# Altium integrated library NXP Microcontrollers ARM7.IntLib: 82 symbols (part 7 of 11)
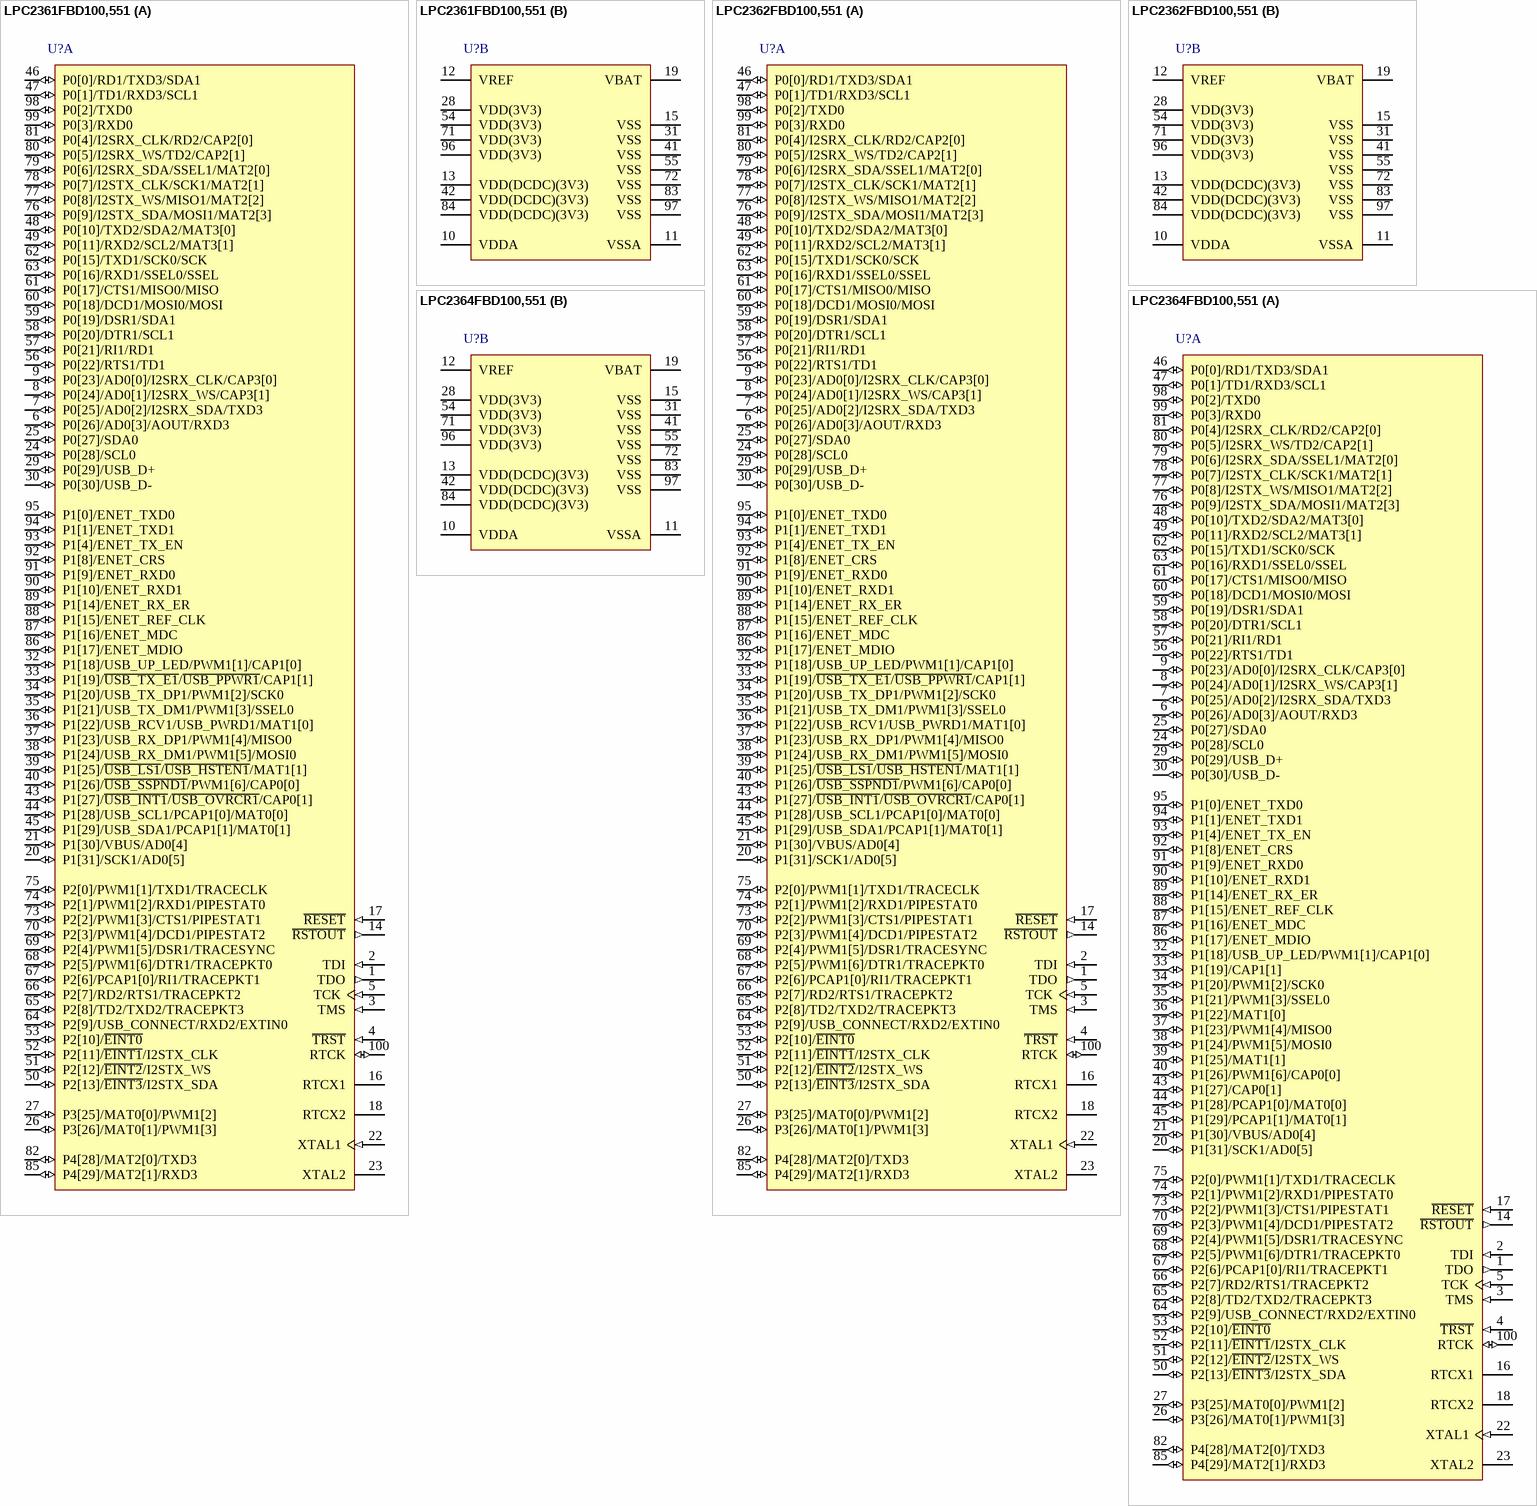
[diagram p41: symbols LPC2361FBD100,551 to LPC2364FBD100,551]

## LPC2362FBD100,551
designator U?
16/32-bit ARM7 Microcontroller, 70 I/O, 128 kB Flash, 58 kB SRAM, -40 to 85 degC, 100-Pin LQFP, Tray; Manufacturer: NXP Semiconductors; PartNumber: LPC2362FBD100,551; # of timers: 4; ADC (bits): 10; ADC Channels: 6; CAN: 2; Ethernet: 1; Flash (KB): 128; fmax [max] (MHz): 72; I/O Pins: 70; I2C: 3; PLL: TRUE; RAM (KB): 58; Timer (bits): 32; DatasheetVersion: Rev. 5.1; PackageVersion: Feb-03; PackageReference: SOT407-1; PackageDescription: 100-Pin Plastic Low Profile Quad Flat Package, Body 14 x 14 mm, Pitch 0.5 mm; Supplier 1: Digi-Key; Supplier Part Number 1: 568-4526-ND; Supplier 2: Farnell; Supplier Part Number 2: 2314791; Supplier 3: Newark; Supplier Part Number 3: 70R5645; Supplier 4: Mouser; Supplier Part Number 4: 771-LPC2362FBD100-S; Core: ARM7; Packing: Tray; PWM: 6; SPI: 1; SSP: 2; UART: 4; USB: 1; Mounting Technology: Surface Mount; Code_JEDEC: MS-026; ComponentLink1Description: Manufacturer URL; ComponentLink1URL: http://www.nxp.com/; ComponentLink2Description: Datasheet; ComponentLink2URL: http://www.nxp.com/documents/data_sheet/LPC2361_62.pdf; ComponentLink3Description: Package Specification; ComponentLink3URL: http://www.nxp.com/documents/outline_drawing/sot407-1_po.pdf
footprint NXP-SOT407-1_V (QFP, 100-Leads, Body 14x14mm, Pitch 0.5mm)
part A pins: 1 TDO (out) "TDO - Test Data out for JTAG interface.", 2 TDI (in) "TDI - Test Data in for JTAG interface.", 3 TMS (in) "TMS - Test Mode Select for JTAG interface.", 4 ~{TRST} (in) "T\R\S\T\ - Test Reset for JTAG interface.", 5 TCK (in) "TCK - Test Clock for JTAG interface. This clock must be slower than 1 ⁄ 6 of the CPU clock (CCLK) for the JTAG interface to operate", 6 P0[26]/AD0[3]/AOUT/RXD3 (io), 7 P0[25]/AD0[2]/I2SRX_SDA/TXD3 (io), 8 P0[24]/AD0[1]/I2SRX_WS/CAP3[1] (io), 9 P0[23]/AD0[0]/I2SRX_CLK/CAP3[0] (io), 14 ~{RSTOUT} (out) "R\S\T\O\U\T\ - This is a 3.3 V pin. LOW on this pin indicates LPC2361/2362 being in Reset state.", 16 RTCX1 "Input to the RTC oscillator circuit.", 17 ~{RESET} (in) "External reset input: A LOW on this pin resets the device, causing I/O ports and peripherals to take on their default states, and processor execution to begin at address 0. TTL with hysteresis, 5 V tolerant.", 18 RTCX2 "Output from the RTC oscillator circuit.", 20 P1[31]/SCK1/AD0[5] (io), 21 P1[30]/VBUS/AD0[4] (io), 22 XTAL1 (in) "Input to the oscillator circuit and internal clock generator circuits.", 23 XTAL2 "Output from the oscillator amplifier.", 24 P0[28]/SCL0 (io), 25 P0[27]/SDA0 (io), 26 P3[26]/MAT0[1]/PWM1[3] (io), 27 P3[25]/MAT0[0]/PWM1[2] (io), 29 P0[29]/USB_D+ (io), 30 P0[30]/USB_D- (io), 32 P1[18]/USB_UP_LED/PWM1[1]/CAP1[0] (io), 33 P1[19]/~{USB_TX_E1}/~{USB_PPWR1}/CAP1[1] (io), 34 P1[20]/USB_TX_DP1/PWM1[2]/SCK0 (io), 35 P1[21]/USB_TX_DM1/PWM1[3]/SSEL0 (io), 36 P1[22]/USB_RCV1/USB_PWRD1/MAT1[0] (io), 37 P1[23]/USB_RX_DP1/PWM1[4]/MISO0 (io), 38 P1[24]/USB_RX_DM1/PWM1[5]/MOSI0 (io), 39 P1[25]/~{USB_LS1}/~{USB_HSTEN1}/MAT1[1] (io), 40 P1[26]/~{USB_SSPND1}/PWM1[6]/CAP0[0] (io), 43 P1[27]/~{USB_INT1}/~{USB_OVRCR1}/CAP0[1] (io) "3.3 V DC-to-DC converter supply voltage: This is the supply voltage for the on-chip DC-to-DC converter only.", 44 P1[28]/USB_SCL1/PCAP1[0]/MAT0[0] (io), 45 P1[29]/USB_SDA1/PCAP1[1]/MAT0[1] (io), 46 P0[0]/RD1/TXD3/SDA1 (io), 47 P0[1]/TD1/RXD3/SCL1 (io), 48 P0[10]/TXD2/SDA2/MAT3[0] (io), 49 P0[11]/RXD2/SCL2/MAT3[1] (io), 50 P2[13]/~{EINT3}/I2STX_SDA (io), 51 P2[12]/~{EINT2}/I2STX_WS (io), 52 P2[11]/~{EINT1}/I2STX_CLK (io), 53 P2[10]/~{EINT0} (io), 56 P0[22]/RTS1/TD1 (io), 57 P0[21]/RI1/RD1 (io), 58 P0[20]/DTR1/SCL1 (io), 59 P0[19]/DSR1/SDA1 (io), 60 P0[18]/DCD1/MOSI0/MOSI (io), 61 P0[17]/CTS1/MISO0/MISO (io), 62 P0[15]/TXD1/SCK0/SCK (io), 63 P0[16]/RXD1/SSEL0/SSEL (io), 64 P2[9]/USB_CONNECT/RXD2/EXTIN0 (io), 65 P2[8]/TD2/TXD2/TRACEPKT3 (io), 66 P2[7]/RD2/RTS1/TRACEPKT2 (io), 67 P2[6]/PCAP1[0]/RI1/TRACEPKT1 (io), 68 P2[5]/PWM1[6]/DTR1/TRACEPKT0 (io), 69 P2[4]/PWM1[5]/DSR1/TRACESYNC (io), 70 P2[3]/PWM1[4]/DCD1/PIPESTAT2 (io), 73 P2[2]/PWM1[3]/CTS1/PIPESTAT1 (io), 74 P2[1]/PWM1[2]/RXD1/PIPESTAT0 (io), 75 P2[0]/PWM1[1]/TXD1/TRACECLK (io), 76 P0[9]/I2STX_SDA/MOSI1/MAT2[3] (io), 77 P0[8]/I2STX_WS/MISO1/MAT2[2] (io), 78 P0[7]/I2STX_CLK/SCK1/MAT2[1] (io), 79 P0[6]/I2SRX_SDA/SSEL1/MAT2[0] (io), 80 P0[5]/I2SRX_WS/TD2/CAP2[1] (io), 81 P0[4]/I2SRX_CLK/RD2/CAP2[0] (io), 82 P4[28]/MAT2[0]/TXD3 (io), 85 P4[29]/MAT2[1]/RXD3 (io), 86 P1[17]/ENET_MDIO (io), 87 P1[16]/ENET_MDC (io), 88 P1[15]/ENET_REF_CLK (io), 89 P1[14]/ENET_RX_ER (io), 90 P1[10]/ENET_RXD1 (io), 91 P1[9]/ENET_RXD0 (io), 92 P1[8]/ENET_CRS (io), 93 P1[4]/ENET_TX_EN (io), 94 P1[1]/ENET_TXD1 (io), 95 P1[0]/ENET_TXD0 (io), 98 P0[2]/TXD0 (io), 99 P0[3]/RXD0 (io), 100 RTCK (io) "RTCK - JTAG interface control signal."
part B pins: 10 VDDA (power) "analog 3.3 V pad supply voltage: This should be nominally the same voltage as VDD(3V3) but should be isolated to minimize noise and error. This voltage is used to power the ADC and DAC.", 11 VSSA (power) "analog ground: 0 V reference. This should nominally be the same voltage as VSS, but should be isolated to minimize noise and error.", 12 VREF "ADC reference: This should be nominally the same voltage as VDD(3V3) but should be isolated to minimize noise and error. Level on this pin is used as a reference for ADC and DAC.", 13 VDD(DCDC)(3V3) (power) "3.3 V DC-to-DC converter supply voltage: This is the supply voltage for the on-chip DC-to-DC converter only.", 15 VSS (power) "ground: 0 V reference.", 19 VBAT (power) "RTC power supply: 3.3 V on this pin supplies the power to the RTC peripheral.", 28 VDD(3V3) (power) "3.3 V supply voltage: This is the power supply voltage for the I/O ports.", 31 VSS (power) "ground: 0 V reference.", 41 VSS (power) "ground: 0 V reference.", 42 VDD(DCDC)(3V3) (power), 54 VDD(3V3) (power) "3.3 V supply voltage: This is the power supply voltage for the I/O ports.", 55 VSS (power) "ground: 0 V reference.", 71 VDD(3V3) (power) "3.3 V supply voltage: This is the power supply voltage for the I/O ports.", 72 VSS (power) "ground: 0 V reference.", 83 VSS (power) "ground: 0 V reference.", 84 VDD(DCDC)(3V3) (power) "3.3 V DC-to-DC converter supply voltage: This is the supply voltage for the on-chip DC-to-DC converter only.", 96 VDD(3V3) (power) "3.3 V supply voltage: This is the power supply voltage for the I/O ports.", 97 VSS (power) "ground: 0 V reference."

## LPC2364FBD100,551
designator U?
16/32-bit ARM7 Microcontroller, 70 I/O, 128 kB Flash, 34 kB SRAM, -40 to 85 degC, 100-Pin LQFP, Tray; Manufacturer: NXP Semiconductors; PartNumber: LPC2364FBD100,551; # of timers: 4; ADC (bits): 10; ADC Channels: 6; CAN: 2; Ethernet: 1; Flash (KB): 128; fmax [max] (MHz): 72; I/O Pins: 70; I2C: 3; PLL: TRUE; RAM (KB): 34; Timer (bits): 32; DatasheetVersion: Rev. 7.1; PackageVersion: Feb-03; PackageReference: SOT407-1; PackageDescription: 100-Pin Plastic Low Profile Quad Flat Package, Body 14 x 14 mm, Pitch 0.5 mm; Supplier 1: Digi-Key; Supplier Part Number 1: 568-3995-ND; Supplier 2: Farnell; Supplier Part Number 2: 1524643; Supplier 3: Newark; Supplier Part Number 3: 70R5646; Supplier 4: Mouser; Supplier Part Number 4: 771-LPC2364FBD100-S; Core: ARM7; Packing: Tray; PWM: 6; SPI: 1; SSP: 2; UART: 4; USB: 1; Mounting Technology: Surface Mount; Code_JEDEC: MS-026; ComponentLink1Description: Manufacturer URL; ComponentLink1URL: http://www.nxp.com/; ComponentLink2Description: Datasheet; ComponentLink2URL: http://www.nxp.com/documents/data_sheet/LPC2364_65_66_67_68.pdf; ComponentLink3Description: Package Specification; ComponentLink3URL: http://www.nxp.com/documents/outline_drawing/sot407-1_po.pdf
footprint NXP-SOT407-1_V (QFP, 100-Leads, Body 14x14mm, Pitch 0.5mm)
part A pins: 1 TDO (out) "TDO - Test Data out for JTAG interface.", 2 TDI (in) "TDI - Test Data in for JTAG interface.", 3 TMS (in) "TMS - Test Mode Select for JTAG interface.", 4 ~{TRST} (in) "T\R\S\T\ - Test Reset for JTAG interface.", 5 TCK (in) "TCK - Test Clock for JTAG interface. This clock must be slower than 1 / 6 of the CPU clock (CCLK) for the JTAG interface to operate", 6 P0[26]/AD0[3]/AOUT/RXD3 (io), 7 P0[25]/AD0[2]/I2SRX_SDA/TXD3 (io), 8 P0[24]/AD0[1]/I2SRX_WS/CAP3[1] (io), 9 P0[23]/AD0[0]/I2SRX_CLK/CAP3[0] (io), 14 ~{RSTOUT} (out) "R\S\T\O\U\T\ - This is a 3.3 V pin. LOW on this pin indicates LPC2364/65/66/67/68 being in Reset state. Note: This pin is available in LPC2364FBD100, LPC2365FBD100, LPC2366FBD100, LPC2367FBD100, and LPC2368FBD100 devices (See Datasheet)", 16 RTCX1 "Input to the RTC oscillator circuit.", 17 ~{RESET} (in) "External reset input: A LOW on this pin resets the device, causing I/O ports and peripherals to take on their default states, and processor execution to begin at address 0. TTL with hysteresis, 5 V tolerant.", 18 RTCX2 "Output from the RTC oscillator circuit.", 20 P1[31]/SCK1/AD0[5] (io), 21 P1[30]/VBUS/AD0[4] (io), 22 XTAL1 (in) "Input to the oscillator circuit and internal clock generator circuits.", 23 XTAL2 "Output from the oscillator amplifier.", 24 P0[28]/SCL0 (io), 25 P0[27]/SDA0 (io), 26 P3[26]/MAT0[1]/PWM1[3] (io), 27 P3[25]/MAT0[0]/PWM1[2] (io), 29 P0[29]/USB_D+ (io), 30 P0[30]/USB_D- (io), 32 P1[18]/USB_UP_LED/PWM1[1]/CAP1[0] (io), 33 P1[19]/CAP1[1] (io), 34 P1[20]/PWM1[2]/SCK0 (io), 35 P1[21]/PWM1[3]/SSEL0 (io), 36 P1[22]/MAT1[0] (io), 37 P1[23]/PWM1[4]/MISO0 (io), 38 P1[24]/PWM1[5]/MOSI0 (io), 39 P1[25]/MAT1[1] (io), 40 P1[26]/PWM1[6]/CAP0[0] (io), 43 P1[27]/CAP0[1] (io), 44 P1[28]/PCAP1[0]/MAT0[0] (io), 45 P1[29]/PCAP1[1]/MAT0[1] (io), 46 P0[0]/RD1/TXD3/SDA1 (io), 47 P0[1]/TD1/RXD3/SCL1 (io), 48 P0[10]/TXD2/SDA2/MAT3[0] (io), 49 P0[11]/RXD2/SCL2/MAT3[1] (io), 50 P2[13]/~{EINT3}/I2STX_SDA (io), 51 P2[12]/~{EINT2}/I2STX_WS (io), 52 P2[11]/~{EINT1}/I2STX_CLK (io), 53 P2[10]/~{EINT0} (io), 56 P0[22]/RTS1/TD1 (io), 57 P0[21]/RI1/RD1 (io), 58 P0[20]/DTR1/SCL1 (io), 59 P0[19]/DSR1/SDA1 (io), 60 P0[18]/DCD1/MOSI0/MOSI (io), 61 P0[17]/CTS1/MISO0/MISO (io), 62 P0[15]/TXD1/SCK0/SCK (io), 63 P0[16]/RXD1/SSEL0/SSEL (io), 64 P2[9]/USB_CONNECT/RXD2/EXTIN0 (io), 65 P2[8]/TD2/TXD2/TRACEPKT3 (io), 66 P2[7]/RD2/RTS1/TRACEPKT2 (io), 67 P2[6]/PCAP1[0]/RI1/TRACEPKT1 (io), 68 P2[5]/PWM1[6]/DTR1/TRACEPKT0 (io), 69 P2[4]/PWM1[5]/DSR1/TRACESYNC (io), 70 P2[3]/PWM1[4]/DCD1/PIPESTAT2 (io), 73 P2[2]/PWM1[3]/CTS1/PIPESTAT1 (io), 74 P2[1]/PWM1[2]/RXD1/PIPESTAT0 (io), 75 P2[0]/PWM1[1]/TXD1/TRACECLK (io), 76 P0[9]/I2STX_SDA/MOSI1/MAT2[3] (io), 77 P0[8]/I2STX_WS/MISO1/MAT2[2] (io), 78 P0[7]/I2STX_CLK/SCK1/MAT2[1] (io), 79 P0[6]/I2SRX_SDA/SSEL1/MAT2[0] (io), 80 P0[5]/I2SRX_WS/TD2/CAP2[1] (io), 81 P0[4]/I2SRX_CLK/RD2/CAP2[0] (io), 82 P4[28]/MAT2[0]/TXD3 (io), 85 P4[29]/MAT2[1]/RXD3 (io), 86 P1[17]/ENET_MDIO (io), 87 P1[16]/ENET_MDC (io), 88 P1[15]/ENET_REF_CLK (io), 89 P1[14]/ENET_RX_ER (io), 90 P1[10]/ENET_RXD1 (io), 91 P1[9]/ENET_RXD0 (io), 92 P1[8]/ENET_CRS (io), 93 P1[4]/ENET_TX_EN (io), 94 P1[1]/ENET_TXD1 (io), 95 P1[0]/ENET_TXD0 (io), 98 P0[2]/TXD0 (io), 99 P0[3]/RXD0 (io), 100 RTCK (io) "RTCK - JTAG interface control signal. Note: LOW on this pin while R\E\S\E\T\ is LOW enables ETM pins (P2[9:0]) to operate as trace port after reset."
part B pins: 10 VDDA (power) "analog 3.3 V pad supply voltage: This should be nominally the same voltage as VDD(3V3) but should be isolated to minimize noise and error. This voltage is used to power the ADC and DAC.", 11 VSSA (power) "analog ground: 0 V reference. This should nominally be the same voltage as VSS, but should be isolated to minimize noise and error.", 12 VREF "ADC reference: This should be nominally the same voltage as VDD(3V3) but should be isolated to minimize noise and error. Level on this pin is used as a reference for ADC and DAC.", 13 VDD(DCDC)(3V3) (power) "3.3 V DC-to-DC converter supply voltage: This is the supply voltage for the on-chip DC-to-DC converter only.", 15 VSS (power) "ground: 0 V reference.", 19 VBAT (power) "RTC power supply: 3.3 V on this pin supplies the power to the RTC peripheral.", 28 VDD(3V3) (power) "3.3 V supply voltage: This is the power supply voltage for the I/O ports.", 31 VSS (power) "ground: 0 V reference.", 41 VSS (power) "ground: 0 V reference.", 42 VDD(DCDC)(3V3) (power) "3.3 V DC-to-DC converter supply voltage: This is the supply voltage for the on-chip DC-to-DC converter only.", 54 VDD(3V3) (power) "3.3 V supply voltage: This is the power supply voltage for the I/O ports.", 55 VSS (power) "ground: 0 V reference.", 71 VDD(3V3) (power) "3.3 V supply voltage: This is the power supply voltage for the I/O ports.", 72 VSS (power) "ground: 0 V reference.", 83 VSS (power) "ground: 0 V reference.", 84 VDD(DCDC)(3V3) (power) "3.3 V DC-to-DC converter supply voltage: This is the supply voltage for the on-chip DC-to-DC converter only.", 96 VDD(3V3) (power) "3.3 V supply voltage: This is the power supply voltage for the I/O ports.", 97 VSS (power) "ground: 0 V reference."

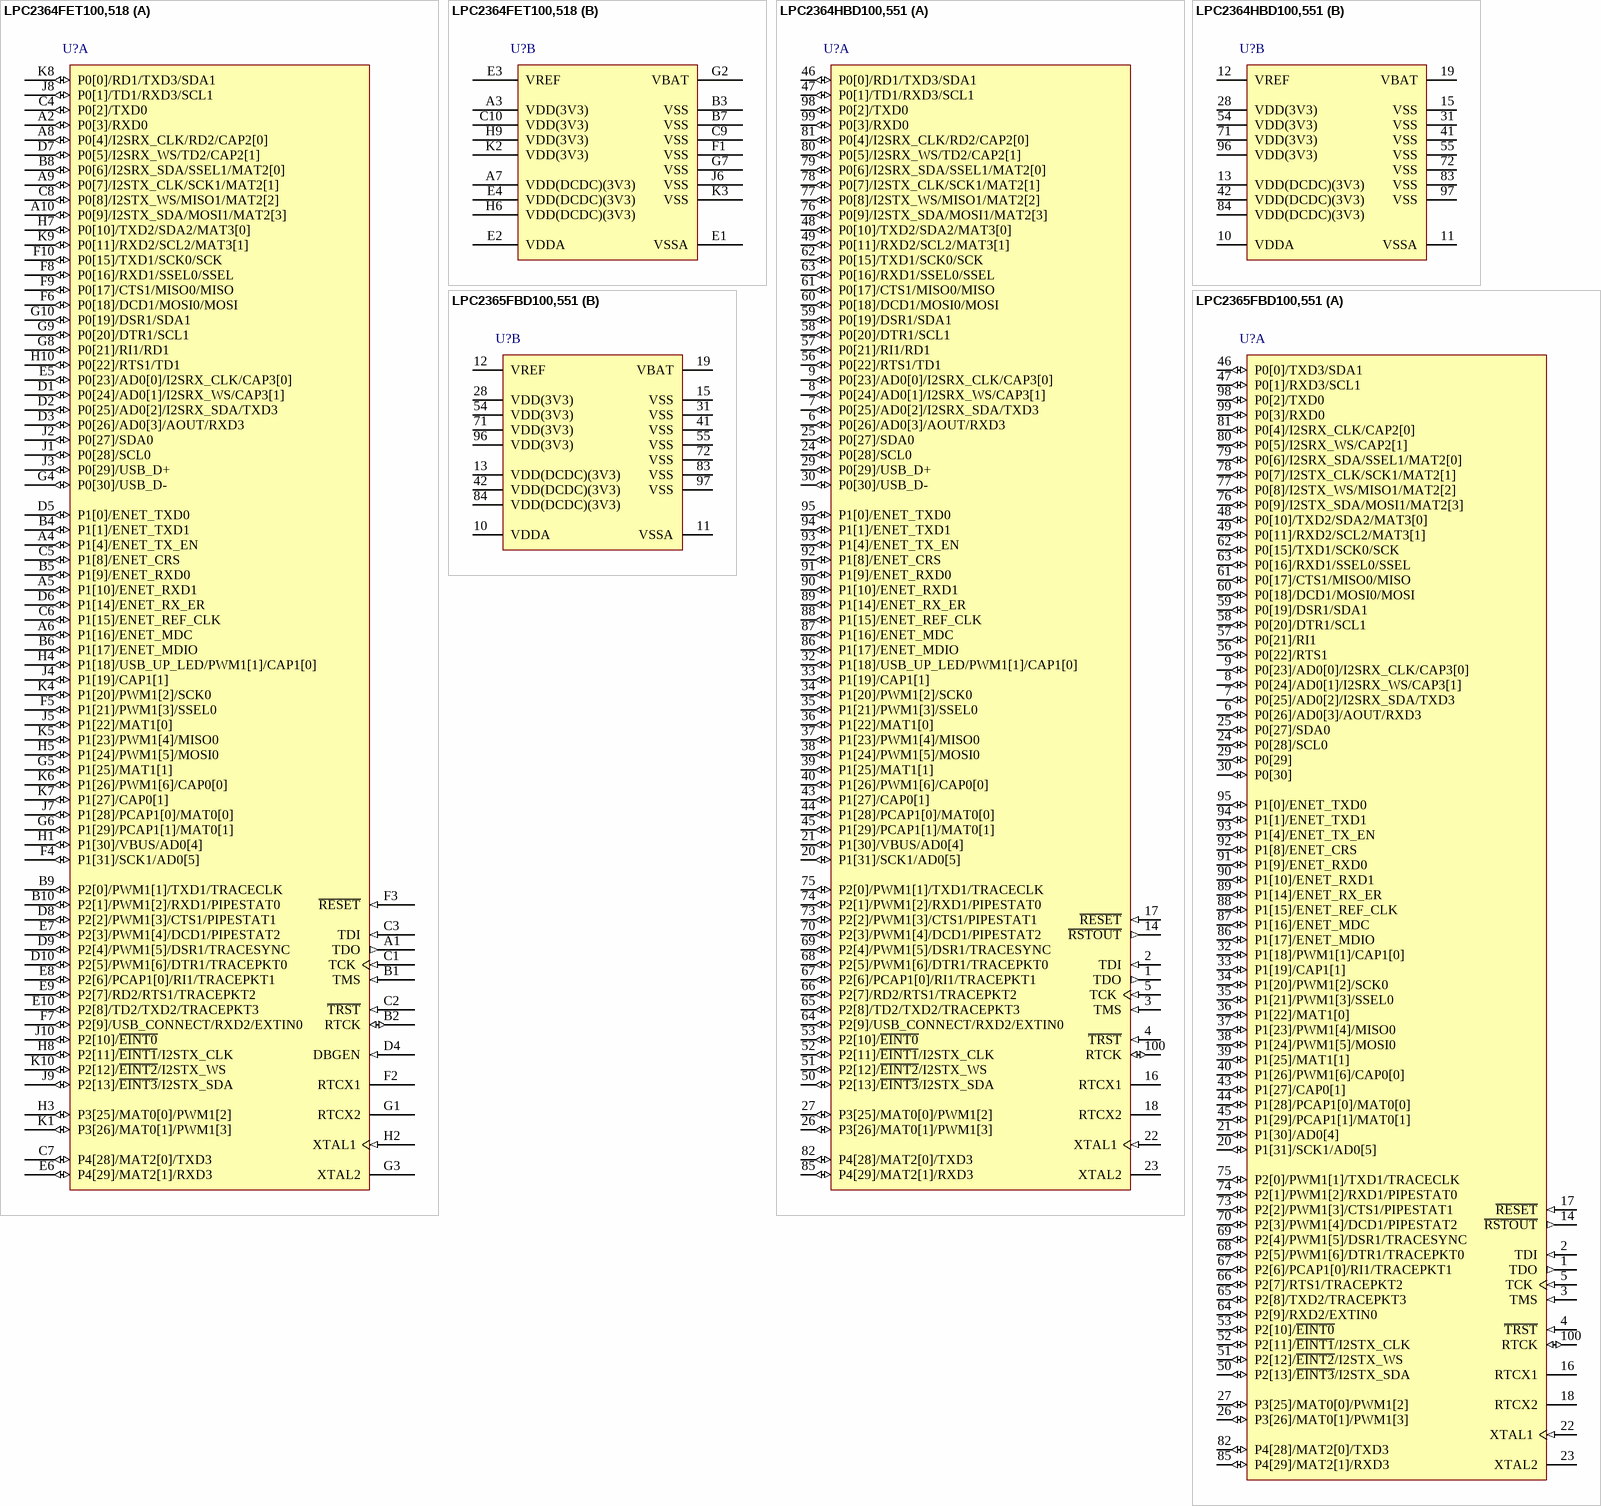
[diagram p19: symbols LPC2364FET100,518 to LPC2365FBD100,551]

## LPC2364FET100,518
designator U?
16/32-bit ARM7 Microcontroller, 70 I/O, 128 kB Flash, 34 kB SRAM, -40 to 85 degC, 100-Ball TFBGA, Reel; Manufacturer: NXP Semiconductors; PartNumber: LPC2364FET100,518; # of timers: 4; ADC (bits): 10; ADC Channels: 6; CAN: 2; Ethernet: 1; Flash (KB): 128; fmax [max] (MHz): 72; I/O Pins: 70; I2C: 3; PLL: TRUE; RAM (KB): 34; Timer (bits): 32; DatasheetVersion: Rev. 7.1; PackageVersion: Dec-05; PackageReference: SOT926-1; PackageDescription: 100-Ball Plastic Thin Fine-Pitch Ball Grid Array Package, Body 9 x 9 mm, Pitch 0.8 mm; Supplier 1: Digi-Key; Supplier Part Number 1: 568-8722-2-ND; Supplier 2: Digi-Key; Supplier Part Number 2: 568-8722-1-ND; Supplier 3: Digi-Key; Supplier Part Number 3: 568-8722-6-ND; Supplier 4: Newark; Supplier Part Number 4: 70R5647; Supplier 5: Mouser; Supplier Part Number 5: 771-LPC2364FET100-T; Core: ARM7; Packing: Reel; PWM: 6; SPI: 1; SSP: 2; UART: 4; USB: 1; Mounting Technology: Surface Mount; ComponentLink1Description: Manufacturer URL; ComponentLink1URL: http://www.nxp.com/; ComponentLink2Description: Datasheet; ComponentLink2URL: http://www.nxp.com/documents/data_sheet/LPC2364_65_66_67_68.pdf; ComponentLink3Description: Package Specification; ComponentLink3URL: http://www.nxp.com/documents/outline_drawing/sot926-1_po.pdf
footprint NXP-SOT926-1 (BGA, 100-Balls, Body 9x9mm, Pitch 0.8mm)
part A pins: A1 TDO (out) "TDO - Test Data out for JTAG interface.", A2 P0[3]/RXD0 (io), A4 P1[4]/ENET_TX_EN (io), A5 P1[10]/ENET_RXD1 (io), A6 P1[16]/ENET_MDC (io), A8 P0[4]/I2SRX_CLK/RD2/CAP2[0] (io), A9 P0[7]/I2STX_CLK/SCK1/MAT2[1] (io), A10 P0[9]/I2STX_SDA/MOSI1/MAT2[3] (io), B1 TMS (in) "TMS - Test Mode Select for JTAG interface.", B2 RTCK (io) "RTCK - JTAG interface control signal.", B4 P1[1]/ENET_TXD1 (io), B5 P1[9]/ENET_RXD0 (io), B6 P1[17]/ENET_MDIO (io), B8 P0[6]/I2SRX_SDA/SSEL1/MAT2[0] (io), B9 P2[0]/PWM1[1]/TXD1/TRACECLK (io), B10 P2[1]/PWM1[2]/RXD1/PIPESTAT0 (io), C1 TCK (in) "TCK - Test Clock for JTAG interface. This clock must be slower than 1 ⁄ 6 of the CPU clock (CCLK) for the JTAG interface to operate", C2 ~{TRST} (in) "T\R\S\T\ - Test Reset for JTAG interface.", C3 TDI (in) "TDI - Test Data in for JTAG interface.", C4 P0[2]/TXD0 (io), C5 P1[8]/ENET_CRS (io), C6 P1[15]/ENET_REF_CLK (io), C7 P4[28]/MAT2[0]/TXD3 (io), C8 P0[8]/I2STX_WS/MISO1/MAT2[2] (io), D1 P0[24]/AD0[1]/I2SRX_WS/CAP3[1] (io), D2 P0[25]/AD0[2]/I2SRX_SDA/TXD3 (io), D3 P0[26]/AD0[3]/AOUT/RXD3 (io), D4 DBGEN (in) "DBGEN - JTAG interface control signal. Also used for boundary scanning.", D5 P1[0]/ENET_TXD0 (io), D6 P1[14]/ENET_RX_ER (io), D7 P0[5]/I2SRX_WS/TD2/CAP2[1] (io), D8 P2[2]/PWM1[3]/CTS1/PIPESTAT1 (io), D9 P2[4]/PWM1[5]/DSR1/TRACESYNC (io), D10 P2[5]/PWM1[6]/DTR1/TRACEPKT0 (io), E5 P0[23]/AD0[0]/I2SRX_CLK/CAP3[0] (io), E6 P4[29]/MAT2[1]/RXD3 (io), E7 P2[3]/PWM1[4]/DCD1/PIPESTAT2 (io), E8 P2[6]/PCAP1[0]/RI1/TRACEPKT1 (io), E9 P2[7]/RD2/RTS1/TRACEPKT2 (io), E10 P2[8]/TD2/TXD2/TRACEPKT3 (io), F2 RTCX1 "Input to the RTC oscillator circuit.", F3 ~{RESET} (in) "External reset input: A LOW on this pin resets the device, causing I/O ports and peripherals to take on their default states, and processor execution to begin at address 0. TTL with hysteresis, 5 V tolerant.", F4 P1[31]/SCK1/AD0[5] (io), F5 P1[21]/PWM1[3]/SSEL0 (io), F6 P0[18]/DCD1/MOSI0/MOSI (io), F7 P2[9]/USB_CONNECT/RXD2/EXTIN0 (io), F8 P0[16]/RXD1/SSEL0/SSEL (io), F9 P0[17]/CTS1/MISO0/MISO (io), F10 P0[15]/TXD1/SCK0/SCK (io), G1 RTCX2 "Output from the RTC oscillator circuit.", G3 XTAL2 "Output from the oscillator amplifier.", G4 P0[30]/USB_D- (io), G5 P1[25]/MAT1[1] (io), G6 P1[29]/PCAP1[1]/MAT0[1] (io), G8 P0[21]/RI1/RD1 (io), G9 P0[20]/DTR1/SCL1 (io), G10 P0[19]/DSR1/SDA1 (io), H1 P1[30]/VBUS/AD0[4] (io), H2 XTAL1 (in) "Input to the oscillator circuit and internal clock generator circuits.", H3 P3[25]/MAT0[0]/PWM1[2] (io), H4 P1[18]/USB_UP_LED/PWM1[1]/CAP1[0] (io), H5 P1[24]/PWM1[5]/MOSI0 (io), H7 P0[10]/TXD2/SDA2/MAT3[0] (io), H8 P2[11]/~{EINT1}/I2STX_CLK (io), H10 P0[22]/RTS1/TD1 (io), J1 P0[28]/SCL0 (io), J2 P0[27]/SDA0 (io), J3 P0[29]/USB_D+ (io), J4 P1[19]/CAP1[1] (io), J5 P1[22]/MAT1[0] (io), J7 P1[28]/PCAP1[0]/MAT0[0] (io), J8 P0[1]/TD1/RXD3/SCL1 (io), J9 P2[13]/~{EINT3}/I2STX_SDA (io), J10 P2[10]/~{EINT0} (io), K1 P3[26]/MAT0[1]/PWM1[3] (io), K4 P1[20]/PWM1[2]/SCK0 (io), K5 P1[23]/PWM1[4]/MISO0 (io), K6 P1[26]/PWM1[6]/CAP0[0] (io), K7 P1[27]/CAP0[1] (io), K8 P0[0]/RD1/TXD3/SDA1 (io), K9 P0[11]/RXD2/SCL2/MAT3[1] (io), K10 P2[12]/~{EINT2}/I2STX_WS (io)
part B pins: A3 VDD(3V3) (power) "3.3 V supply voltage: This is the power supply voltage for the I/O ports.", A7 VDD(DCDC)(3V3) (power) "3.3 V DC-to-DC converter supply voltage: This is the supply voltage for the on-chip DC-to-DC converter only.", B3 VSS (power) "ground: 0 V reference.", B7 VSS (power) "ground: 0 V reference.", C9 VSS (power) "ground: 0 V reference.", C10 VDD(3V3) (power) "3.3 V supply voltage: This is the power supply voltage for the I/O ports.", E1 VSSA (power) "analog ground: 0 V reference. This should nominally be the same voltage as VSS, but should be isolated to minimize noise and error.", E2 VDDA (power) "analog 3.3 V pad supply voltage: This should be nominally the same voltage as VDD(3V3) but should be isolated to minimize noise and error. This voltage is used to power the ADC and DAC.", E3 VREF "ADC reference: This should be nominally the same voltage as VDD(3V3) but should be isolated to minimize noise and error. Level on this pin is used as a reference for ADC and DAC.", E4 VDD(DCDC)(3V3) (power) "3.3 V DC-to-DC converter supply voltage: This is the supply voltage for the on-chip DC-to-DC converter only.", F1 VSS (power) "ground: 0 V reference.", G2 VBAT (power) "RTC power supply: 3.3 V on this pin supplies the power to the RTC peripheral.", G7 VSS (power) "ground: 0 V reference.", H6 VDD(DCDC)(3V3) (power) "3.3 V DC-to-DC converter supply voltage: This is the supply voltage for the on-chip DC-to-DC converter only.", H9 VDD(3V3) (power) "3.3 V supply voltage: This is the power supply voltage for the I/O ports.", J6 VSS (power) "ground: 0 V reference.", K2 VDD(3V3) (power) "3.3 V supply voltage: This is the power supply voltage for the I/O ports.", K3 VSS (power) "ground: 0 V reference."

## LPC2364HBD100,551
designator U?
16/32-bit ARM7 Microcontroller, 70 I/O, 128 kB Flash, 34 kB SRAM, -40 to 125 degC, 100-Pin LQFP, Tray; Manufacturer: NXP Semiconductors; PartNumber: LPC2364HBD100,551; # of timers: 4; ADC (bits): 10; ADC Channels: 6; CAN: 2; Ethernet: 1; Flash (KB): 128; fmax [max] (MHz): 72; I/O Pins: 70; I2C: 3; PLL: TRUE; RAM (KB): 34; Timer (bits): 32; DatasheetVersion: Rev. 7.1; PackageVersion: Feb-03; PackageReference: SOT407-1; PackageDescription: 100-Pin Plastic Low Profile Quad Flat Package, Body 14 x 14 mm, Pitch 0.5 mm; Supplier 1: Digi-Key; Supplier Part Number 1: 568-5659-ND; Supplier 2: Farnell; Supplier Part Number 2: 2314792; Supplier 3: Newark; Supplier Part Number 3: 81R2738; Supplier 4: Mouser; Supplier Part Number 4: 771-LPC2364HBD100551; Core: ARM7; Packing: Tray; PWM: 6; SPI: 1; SSP: 2; UART: 4; USB: 1; Mounting Technology: Surface Mount; Code_JEDEC: MS-026; ComponentLink1Description: Manufacturer URL; ComponentLink1URL: http://www.nxp.com/; ComponentLink2Description: Datasheet; ComponentLink2URL: http://www.nxp.com/documents/data_sheet/LPC2364_65_66_67_68.pdf; ComponentLink3Description: Package Specification; ComponentLink3URL: http://www.nxp.com/documents/outline_drawing/sot407-1_po.pdf
footprint NXP-SOT407-1_V (QFP, 100-Leads, Body 14x14mm, Pitch 0.5mm)
part A pins: 1 TDO (out) "TDO - Test Data out for JTAG interface.", 2 TDI (in) "TDI - Test Data in for JTAG interface.", 3 TMS (in) "TMS - Test Mode Select for JTAG interface.", 4 ~{TRST} (in) "T\R\S\T\ - Test Reset for JTAG interface.", 5 TCK (in) "TCK - Test Clock for JTAG interface. This clock must be slower than 1 / 6 of the CPU clock (CCLK) for the JTAG interface to operate", 6 P0[26]/AD0[3]/AOUT/RXD3 (io), 7 P0[25]/AD0[2]/I2SRX_SDA/TXD3 (io), 8 P0[24]/AD0[1]/I2SRX_WS/CAP3[1] (io), 9 P0[23]/AD0[0]/I2SRX_CLK/CAP3[0] (io), 14 ~{RSTOUT} (out) "R\S\T\O\U\T\ - This is a 3.3 V pin. LOW on this pin indicates LPC2364/65/66/67/68 being in Reset state. Note: This pin is available in LPC2364FBD100, LPC2365FBD100, LPC2366FBD100, LPC2367FBD100, and LPC2368FBD100 devices (See Datasheet)", 16 RTCX1 "Input to the RTC oscillator circuit.", 17 ~{RESET} (in) "External reset input: A LOW on this pin resets the device, causing I/O ports and peripherals to take on their default states, and processor execution to begin at address 0. TTL with hysteresis, 5 V tolerant.", 18 RTCX2 "Output from the RTC oscillator circuit.", 20 P1[31]/SCK1/AD0[5] (io), 21 P1[30]/VBUS/AD0[4] (io), 22 XTAL1 (in) "Input to the oscillator circuit and internal clock generator circuits.", 23 XTAL2 "Output from the oscillator amplifier.", 24 P0[28]/SCL0 (io), 25 P0[27]/SDA0 (io), 26 P3[26]/MAT0[1]/PWM1[3] (io), 27 P3[25]/MAT0[0]/PWM1[2] (io), 29 P0[29]/USB_D+ (io), 30 P0[30]/USB_D- (io), 32 P1[18]/USB_UP_LED/PWM1[1]/CAP1[0] (io), 33 P1[19]/CAP1[1] (io), 34 P1[20]/PWM1[2]/SCK0 (io), 35 P1[21]/PWM1[3]/SSEL0 (io), 36 P1[22]/MAT1[0] (io), 37 P1[23]/PWM1[4]/MISO0 (io), 38 P1[24]/PWM1[5]/MOSI0 (io), 39 P1[25]/MAT1[1] (io), 40 P1[26]/PWM1[6]/CAP0[0] (io), 43 P1[27]/CAP0[1] (io), 44 P1[28]/PCAP1[0]/MAT0[0] (io), 45 P1[29]/PCAP1[1]/MAT0[1] (io), 46 P0[0]/RD1/TXD3/SDA1 (io), 47 P0[1]/TD1/RXD3/SCL1 (io), 48 P0[10]/TXD2/SDA2/MAT3[0] (io), 49 P0[11]/RXD2/SCL2/MAT3[1] (io), 50 P2[13]/~{EINT3}/I2STX_SDA (io), 51 P2[12]/~{EINT2}/I2STX_WS (io), 52 P2[11]/~{EINT1}/I2STX_CLK (io), 53 P2[10]/~{EINT0} (io), 56 P0[22]/RTS1/TD1 (io), 57 P0[21]/RI1/RD1 (io), 58 P0[20]/DTR1/SCL1 (io), 59 P0[19]/DSR1/SDA1 (io), 60 P0[18]/DCD1/MOSI0/MOSI (io), 61 P0[17]/CTS1/MISO0/MISO (io), 62 P0[15]/TXD1/SCK0/SCK (io), 63 P0[16]/RXD1/SSEL0/SSEL (io), 64 P2[9]/USB_CONNECT/RXD2/EXTIN0 (io), 65 P2[8]/TD2/TXD2/TRACEPKT3 (io), 66 P2[7]/RD2/RTS1/TRACEPKT2 (io), 67 P2[6]/PCAP1[0]/RI1/TRACEPKT1 (io), 68 P2[5]/PWM1[6]/DTR1/TRACEPKT0 (io), 69 P2[4]/PWM1[5]/DSR1/TRACESYNC (io), 70 P2[3]/PWM1[4]/DCD1/PIPESTAT2 (io), 73 P2[2]/PWM1[3]/CTS1/PIPESTAT1 (io), 74 P2[1]/PWM1[2]/RXD1/PIPESTAT0 (io), 75 P2[0]/PWM1[1]/TXD1/TRACECLK (io), 76 P0[9]/I2STX_SDA/MOSI1/MAT2[3] (io), 77 P0[8]/I2STX_WS/MISO1/MAT2[2] (io), 78 P0[7]/I2STX_CLK/SCK1/MAT2[1] (io), 79 P0[6]/I2SRX_SDA/SSEL1/MAT2[0] (io), 80 P0[5]/I2SRX_WS/TD2/CAP2[1] (io), 81 P0[4]/I2SRX_CLK/RD2/CAP2[0] (io), 82 P4[28]/MAT2[0]/TXD3 (io), 85 P4[29]/MAT2[1]/RXD3 (io), 86 P1[17]/ENET_MDIO (io), 87 P1[16]/ENET_MDC (io), 88 P1[15]/ENET_REF_CLK (io), 89 P1[14]/ENET_RX_ER (io), 90 P1[10]/ENET_RXD1 (io), 91 P1[9]/ENET_RXD0 (io), 92 P1[8]/ENET_CRS (io), 93 P1[4]/ENET_TX_EN (io), 94 P1[1]/ENET_TXD1 (io), 95 P1[0]/ENET_TXD0 (io), 98 P0[2]/TXD0 (io), 99 P0[3]/RXD0 (io), 100 RTCK (io) "RTCK - JTAG interface control signal. Note: LOW on this pin while R\E\S\E\T\ is LOW enables ETM pins (P2[9:0]) to operate as trace port after reset."
part B pins: 10 VDDA (power) "analog 3.3 V pad supply voltage: This should be nominally the same voltage as VDD(3V3) but should be isolated to minimize noise and error. This voltage is used to power the ADC and DAC.", 11 VSSA (power) "analog ground: 0 V reference. This should nominally be the same voltage as VSS, but should be isolated to minimize noise and error.", 12 VREF "ADC reference: This should be nominally the same voltage as VDD(3V3) but should be isolated to minimize noise and error. Level on this pin is used as a reference for ADC and DAC.", 13 VDD(DCDC)(3V3) (power) "3.3 V DC-to-DC converter supply voltage: This is the supply voltage for the on-chip DC-to-DC converter only.", 15 VSS (power) "ground: 0 V reference.", 19 VBAT (power) "RTC power supply: 3.3 V on this pin supplies the power to the RTC peripheral.", 28 VDD(3V3) (power) "3.3 V supply voltage: This is the power supply voltage for the I/O ports.", 31 VSS (power) "ground: 0 V reference.", 41 VSS (power) "ground: 0 V reference.", 42 VDD(DCDC)(3V3) (power) "3.3 V DC-to-DC converter supply voltage: This is the supply voltage for the on-chip DC-to-DC converter only.", 54 VDD(3V3) (power) "3.3 V supply voltage: This is the power supply voltage for the I/O ports.", 55 VSS (power) "ground: 0 V reference.", 71 VDD(3V3) (power) "3.3 V supply voltage: This is the power supply voltage for the I/O ports.", 72 VSS (power) "ground: 0 V reference.", 83 VSS (power) "ground: 0 V reference.", 84 VDD(DCDC)(3V3) (power) "3.3 V DC-to-DC converter supply voltage: This is the supply voltage for the on-chip DC-to-DC converter only.", 96 VDD(3V3) (power) "3.3 V supply voltage: This is the power supply voltage for the I/O ports.", 97 VSS (power) "ground: 0 V reference."

## LPC2365FBD100,551
designator U?
16/32-bit ARM7 Microcontroller, 70 I/O, 256 kB Flash, 58 kB SRAM, -40 to 85 degC, 100-Pin LQFP, Tray; Manufacturer: NXP Semiconductors; PartNumber: LPC2365FBD100,551; # of timers: 4; ADC (bits): 10; ADC Channels: 6; Ethernet: 1; Flash (KB): 256; fmax [max] (MHz): 72; I/O Pins: 70; I2C: 3; PLL: TRUE; RAM (KB): 58; SSP: 2; Timer (bits): 32; DatasheetVersion: Rev. 7.1; PackageVersion: Feb-03; PackageReference: SOT407-1; PackageDescription: 100-Pin Plastic Low Profile Quad Flat Package, Body 14 x 14 mm, Pitch 0.5 mm; Supplier 1: Digi-Key; Supplier Part Number 1: 568-4409-ND; Supplier 2: Farnell; Supplier Part Number 2: 2314793; Supplier 3: Newark; Supplier Part Number 3: 95W3356; Supplier 4: Newark; Supplier Part Number 4: 70R5649; Supplier 5: Mouser; Supplier Part Number 5: 771-LPC2365FBD100-S; Core: ARM7; Packing: Tray; PWM: 6; SPI: 1; UART: 4; Mounting Technology: Surface Mount; Code_JEDEC: MS-026; ComponentLink1Description: Manufacturer URL; ComponentLink1URL: http://www.nxp.com/; ComponentLink2Description: Datasheet; ComponentLink2URL: http://www.nxp.com/documents/data_sheet/LPC2364_65_66_67_68.pdf; ComponentLink3Description: Package Specification; ComponentLink3URL: http://www.nxp.com/documents/outline_drawing/sot407-1_po.pdf
footprint NXP-SOT407-1_V (QFP, 100-Leads, Body 14x14mm, Pitch 0.5mm)
part A pins: 1 TDO (out) "TDO - Test Data out for JTAG interface.", 2 TDI (in) "TDI — Test Data in for JTAG interface.", 3 TMS (in) "TMS — Test Mode Select for JTAG interface.", 4 ~{TRST} (in) "T\R\S\T\ - Test Reset for JTAG interface.", 5 TCK (in) "TCK - Test Clock for JTAG interface. This clock must be slower than 1/6 of the CPU clock (CCLK) for the JTAG interface to operate", 6 P0[26]/AD0[3]/AOUT/RXD3 (io), 7 P0[25]/AD0[2]/I2SRX_SDA/TXD3 (io), 8 P0[24]/AD0[1]/I2SRX_WS/CAP3[1] (io), 9 P0[23]/AD0[0]/I2SRX_CLK/CAP3[0] (io), 14 ~{RSTOUT} (out) "R\S\T\\O\U\T\ - This is a 3.3 V pin. LOW on this pin indicates LPC2364/65/66/67/68 being in Reset state.", 16 RTCX1 "Input to the RTC oscillator circuit.", 17 ~{RESET} (in) "External reset input: A LOW on this pin resets the device, causing I/O ports and peripherals to take on their default states, and processor execution to begin at address 0. TTL with hysteresis, 5 V tolerant.", 18 RTCX2 "Output from the RTC oscillator circuit.", 20 P1[31]/SCK1/AD0[5] (io), 21 P1[30]/AD0[4] (io), 22 XTAL1 (in) "Input to the oscillator circuit and internal clock generator circuits.", 23 XTAL2 "Output from the oscillator amplifier.", 24 P0[28]/SCL0 (io), 25 P0[27]/SDA0 (io), 26 P3[26]/MAT0[1]/PWM1[3] (io), 27 P3[25]/MAT0[0]/PWM1[2] (io), 29 P0[29] (io) "P0[29] - General purpose digital input/output pin.", 30 P0[30] (io) "P0[30] - General purpose digital input/output pin.", 32 P1[18]/PWM1[1]/CAP1[0] (io), 33 P1[19]/CAP1[1] (io), 34 P1[20]/PWM1[2]/SCK0 (io), 35 P1[21]/PWM1[3]/SSEL0 (io), 36 P1[22]/MAT1[0] (io), 37 P1[23]/PWM1[4]/MISO0 (io), 38 P1[24]/PWM1[5]/MOSI0 (io), 39 P1[25]/MAT1[1] (io), 40 P1[26]/PWM1[6]/CAP0[0] (io), 43 P1[27]/CAP0[1] (io), 44 P1[28]/PCAP1[0]/MAT0[0] (io), 45 P1[29]/PCAP1[1]/MAT0[1] (io), 46 P0[0]/TXD3/SDA1 (io), 47 P0[1]/RXD3/SCL1 (io), 48 P0[10]/TXD2/SDA2/MAT3[0] (io), 49 P0[11]/RXD2/SCL2/MAT3[1] (io), 50 P2[13]/~{EINT3}/I2STX_SDA (io), 51 P2[12]/~{EINT2}/I2STX_WS (io), 52 P2[11]/~{EINT1}/I2STX_CLK (io), 53 P2[10]/~{EINT0} (io), 56 P0[22]/RTS1 (io), 57 P0[21]/RI1 (io), 58 P0[20]/DTR1/SCL1 (io), 59 P0[19]/DSR1/SDA1 (io), 60 P0[18]/DCD1/MOSI0/MOSI (io), 61 P0[17]/CTS1/MISO0/MISO (io), 62 P0[15]/TXD1/SCK0/SCK (io), 63 P0[16]/RXD1/SSEL0/SSEL (io), 64 P2[9]/RXD2/EXTIN0 (io), 65 P2[8]/TXD2/TRACEPKT3 (io), 66 P2[7]/RTS1/TRACEPKT2 (io), 67 P2[6]/PCAP1[0]/RI1/TRACEPKT1 (io), 68 P2[5]/PWM1[6]/DTR1/TRACEPKT0 (io), 69 P2[4]/PWM1[5]/DSR1/TRACESYNC (io), 70 P2[3]/PWM1[4]/DCD1/PIPESTAT2 (io), 73 P2[2]/PWM1[3]/CTS1/PIPESTAT1 (io), 74 P2[1]/PWM1[2]/RXD1/PIPESTAT0 (io), 75 P2[0]/PWM1[1]/TXD1/TRACECLK (io), 76 P0[9]/I2STX_SDA/MOSI1/MAT2[3] (io), 77 P0[8]/I2STX_WS/MISO1/MAT2[2] (io), 78 P0[7]/I2STX_CLK/SCK1/MAT2[1] (io), 79 P0[6]/I2SRX_SDA/SSEL1/MAT2[0] (io), 80 P0[5]/I2SRX_WS/CAP2[1] (io), 81 P0[4]/I2SRX_CLK/CAP2[0] (io), 82 P4[28]/MAT2[0]/TXD3 (io), 85 P4[29]/MAT2[1]/RXD3 (io), 86 P1[17]/ENET_MDIO (io), 87 P1[16]/ENET_MDC (io), 88 P1[15]/ENET_REF_CLK (io), 89 P1[14]/ENET_RX_ER (io), 90 P1[10]/ENET_RXD1 (io), 91 P1[9]/ENET_RXD0 (io), 92 P1[8]/ENET_CRS (io), 93 P1[4]/ENET_TX_EN (io), 94 P1[1]/ENET_TXD1 (io), 95 P1[0]/ENET_TXD0 (io), 98 P0[2]/TXD0 (io), 99 P0[3]/RXD0 (io), 100 RTCK (io) "RTCK - JTAG interface control signal."
part B pins: 10 VDDA (power) "analog 3.3 V pad supply voltage: This should be nominally.voltage as VDD(3V3) but should be isolated to minimize noise. voltage is used to power the ADC and DAC.", 11 VSSA (power) "analog ground: 0 V reference. This should nominally be the same voltage as VSS, but should be isolated to minimize noise and error.", 12 VREF "ADC reference: This should be nominally the same voltage as VDD(3V3) but should be isolated to minimize noise and error. Level on this pin is used as a reference for ADC and DAC.", 13 VDD(DCDC)(3V3) (power) "3.3 V DC-to-DC converter supply voltage: This is the supply voltage for the on-chip DC-to-DC converter only.", 15 VSS (power) "ground: 0 V reference.", 19 VBAT (power) "RTC pin power supply: 3.3 V on this pin supplies the power to the RTC peripheral.", 28 VDD(3V3) (power) "3.3 V supply voltage: This is the power supply voltage for the I/O ports.", 31 VSS (power) "ground: 0 V reference.", 41 VSS (power) "ground: 0 V reference.", 42 VDD(DCDC)(3V3) (power) "3.3 V DC-to-DC converter supply voltage: This is the supply voltage for the on-chip DC-to-DC converter only.", 54 VDD(3V3) (power) "3.3 V supply voltage: This is the power supply voltage for the I/O ports.", 55 VSS (power) "ground: 0 V reference.", 71 VDD(3V3) (power) "3.3 V supply voltage: This is the power supply voltage for the I/O ports.", 72 VSS (power) "ground: 0 V reference.", 83 VSS (power) "ground: 0 V reference.", 84 VDD(DCDC)(3V3) (power) "3.3 V DC-to-DC converter supply voltage: This is the supply voltage for the on-chip DC-to-DC converter only.", 96 VDD(3V3) (power) "3.3 V supply voltage: This is the power supply voltage for the I/O ports.", 97 VSS (power) "ground: 0 V reference."

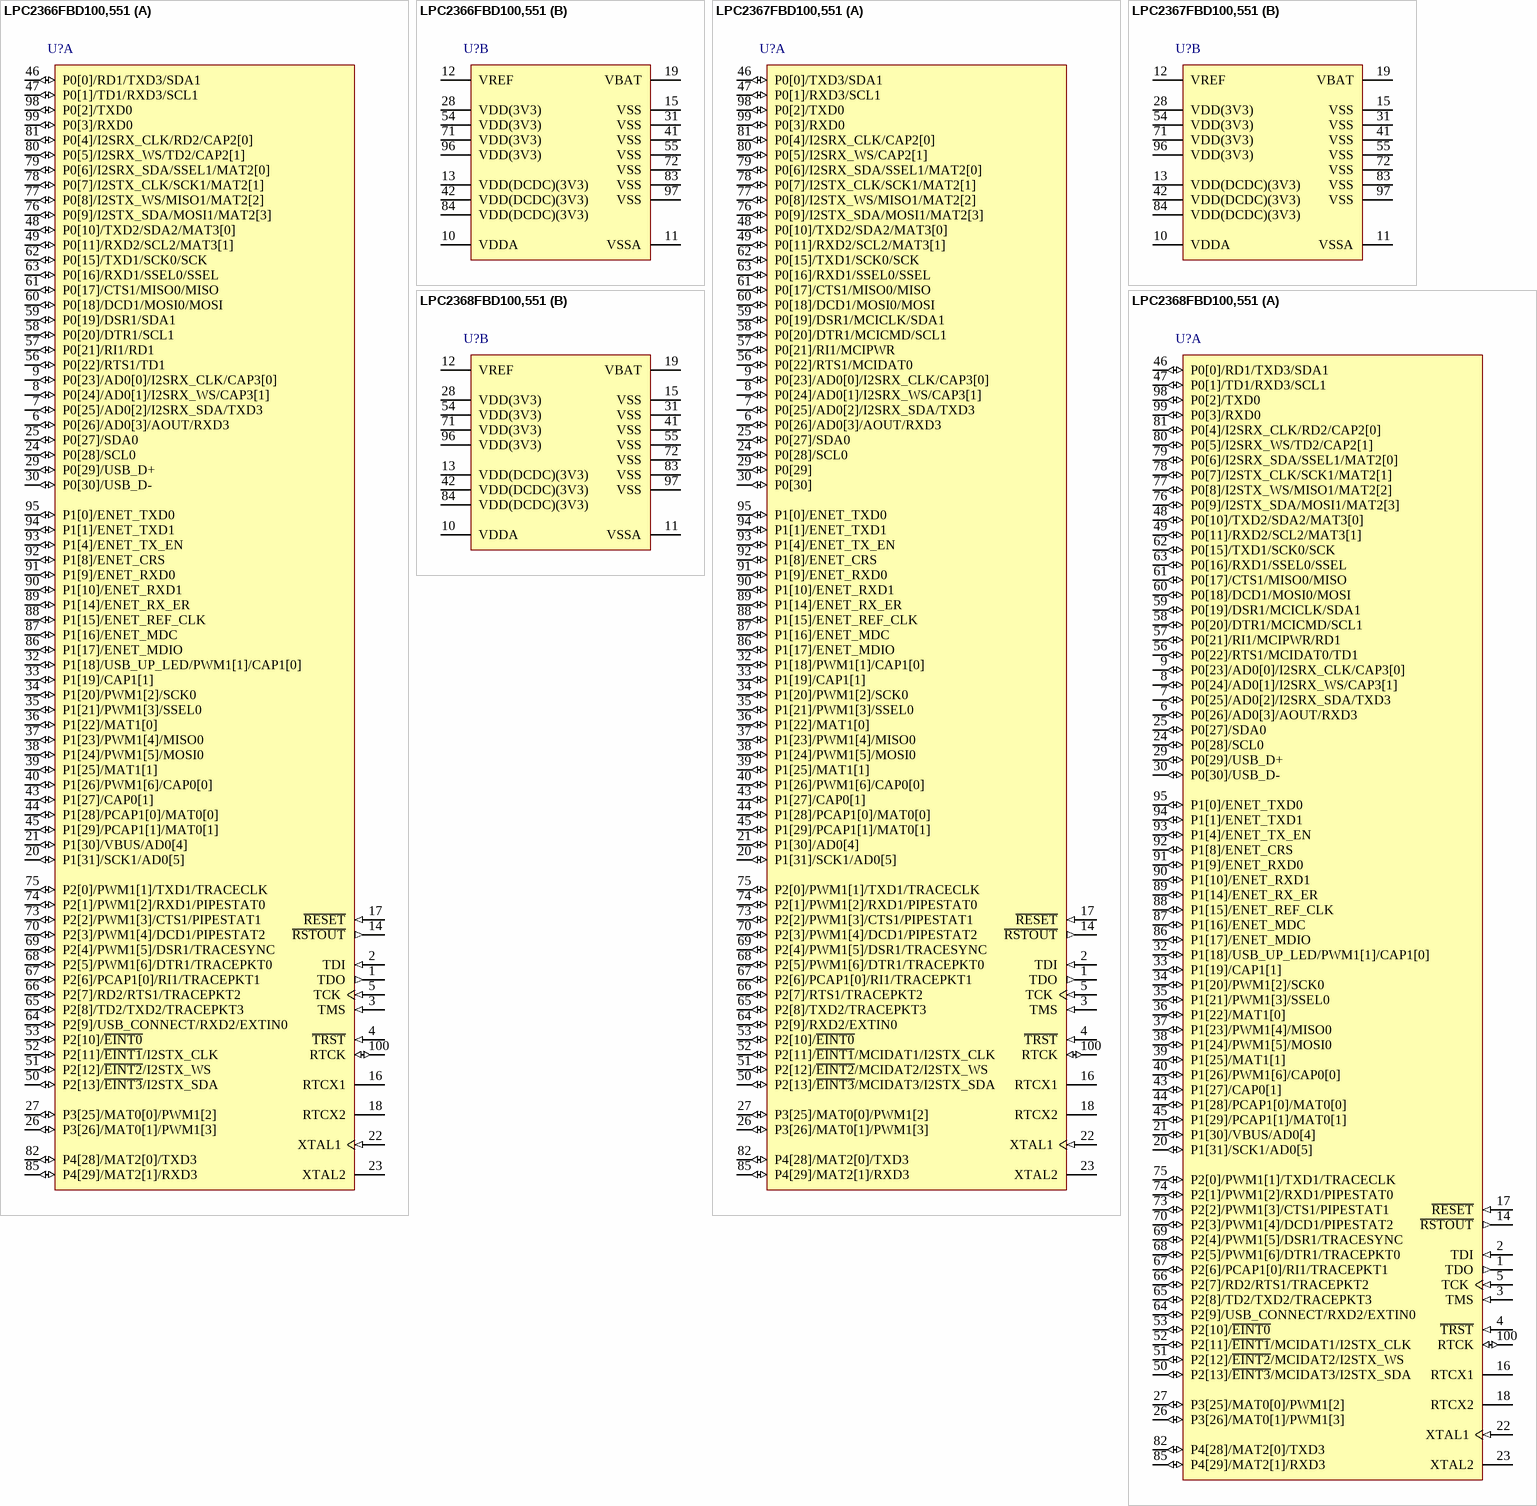
[diagram p20: symbols LPC2366FBD100,551 to LPC2368FBD100,551]

## LPC2366FBD100,551
designator U?
16/32-bit ARM7 Microcontroller, 70 I/O, 256 kB Flash, 58 kB SRAM, -40 to 85 degC, 100-Pin LQFP, Tray; Manufacturer: NXP Semiconductors; PartNumber: LPC2366FBD100,551; # of timers: 4; ADC (bits): 10; ADC Channels: 6; CAN: 2; Ethernet: 1; Flash (KB): 256; fmax [max] (MHz): 72; I/O Pins: 70; I2C: 3; PLL: TRUE; RAM (KB): 58; Timer (bits): 32; DatasheetVersion: Rev. 7.1; PackageVersion: Feb-03; PackageReference: SOT407-1; PackageDescription: 100-Pin Plastic Low Profile Quad Flat Package, Body 14 x 14 mm, Pitch 0.5 mm; Supplier 1: Digi-Key; Supplier Part Number 1: 568-3996-ND; Supplier 2: Farnell; Supplier Part Number 2: 1524644; Supplier 3: Newark; Supplier Part Number 3: 70R5650; Supplier 4: Mouser; Supplier Part Number 4: 771-LPC2366FBD100-S; Core: ARM7; Packing: Tray; PWM: 6; SPI: 1; SSP: 2; UART: 4; USB: 1; Mounting Technology: Surface Mount; Code_JEDEC: MS-026; ComponentLink1Description: Manufacturer URL; ComponentLink1URL: http://www.nxp.com/; ComponentLink2Description: Datasheet; ComponentLink2URL: http://www.nxp.com/documents/data_sheet/LPC2364_65_66_67_68.pdf; ComponentLink3Description: Package Specification; ComponentLink3URL: http://www.nxp.com/documents/outline_drawing/sot407-1_po.pdf
footprint NXP-SOT407-1_V (QFP, 100-Leads, Body 14x14mm, Pitch 0.5mm)
part A pins: 1 TDO (out) "TDO - Test Data out for JTAG interface.", 2 TDI (in) "TDI - Test Data in for JTAG interface.", 3 TMS (in) "TMS - Test Mode Select for JTAG interface.", 4 ~{TRST} (in) "T\R\S\T\ - Test Reset for JTAG interface.", 5 TCK (in) "TCK - Test Clock for JTAG interface. This clock must be slower than 1 / 6 of the CPU clock (CCLK) for the JTAG interface to operate", 6 P0[26]/AD0[3]/AOUT/RXD3 (io), 7 P0[25]/AD0[2]/I2SRX_SDA/TXD3 (io), 8 P0[24]/AD0[1]/I2SRX_WS/CAP3[1] (io), 9 P0[23]/AD0[0]/I2SRX_CLK/CAP3[0] (io), 14 ~{RSTOUT} (out) "R\S\T\O\U\T\ - This is a 3.3 V pin. LOW on this pin indicates LPC2364/65/66/67/68 being in Reset state. Note: This pin is available in LPC2364FBD100, LPC2365FBD100, LPC2366FBD100, LPC2367FBD100, and LPC2368FBD100 devices (See Datasheet)", 16 RTCX1 "Input to the RTC oscillator circuit.", 17 ~{RESET} (in) "External reset input: A LOW on this pin resets the device, causing I/O ports and peripherals to take on their default states, and processor execution to begin at address 0. TTL with hysteresis, 5 V tolerant.", 18 RTCX2 "Output from the RTC oscillator circuit.", 20 P1[31]/SCK1/AD0[5] (io), 21 P1[30]/VBUS/AD0[4] (io), 22 XTAL1 (in) "Input to the oscillator circuit and internal clock generator circuits.", 23 XTAL2 "Output from the oscillator amplifier.", 24 P0[28]/SCL0 (io), 25 P0[27]/SDA0 (io), 26 P3[26]/MAT0[1]/PWM1[3] (io), 27 P3[25]/MAT0[0]/PWM1[2] (io), 29 P0[29]/USB_D+ (io), 30 P0[30]/USB_D- (io), 32 P1[18]/USB_UP_LED/PWM1[1]/CAP1[0] (io), 33 P1[19]/CAP1[1] (io), 34 P1[20]/PWM1[2]/SCK0 (io), 35 P1[21]/PWM1[3]/SSEL0 (io), 36 P1[22]/MAT1[0] (io), 37 P1[23]/PWM1[4]/MISO0 (io), 38 P1[24]/PWM1[5]/MOSI0 (io), 39 P1[25]/MAT1[1] (io), 40 P1[26]/PWM1[6]/CAP0[0] (io), 43 P1[27]/CAP0[1] (io), 44 P1[28]/PCAP1[0]/MAT0[0] (io), 45 P1[29]/PCAP1[1]/MAT0[1] (io), 46 P0[0]/RD1/TXD3/SDA1 (io), 47 P0[1]/TD1/RXD3/SCL1 (io), 48 P0[10]/TXD2/SDA2/MAT3[0] (io), 49 P0[11]/RXD2/SCL2/MAT3[1] (io), 50 P2[13]/~{EINT3}/I2STX_SDA (io), 51 P2[12]/~{EINT2}/I2STX_WS (io), 52 P2[11]/~{EINT1}/I2STX_CLK (io), 53 P2[10]/~{EINT0} (io), 56 P0[22]/RTS1/TD1 (io), 57 P0[21]/RI1/RD1 (io), 58 P0[20]/DTR1/SCL1 (io), 59 P0[19]/DSR1/SDA1 (io), 60 P0[18]/DCD1/MOSI0/MOSI (io), 61 P0[17]/CTS1/MISO0/MISO (io), 62 P0[15]/TXD1/SCK0/SCK (io), 63 P0[16]/RXD1/SSEL0/SSEL (io), 64 P2[9]/USB_CONNECT/RXD2/EXTIN0 (io), 65 P2[8]/TD2/TXD2/TRACEPKT3 (io), 66 P2[7]/RD2/RTS1/TRACEPKT2 (io), 67 P2[6]/PCAP1[0]/RI1/TRACEPKT1 (io), 68 P2[5]/PWM1[6]/DTR1/TRACEPKT0 (io), 69 P2[4]/PWM1[5]/DSR1/TRACESYNC (io), 70 P2[3]/PWM1[4]/DCD1/PIPESTAT2 (io), 73 P2[2]/PWM1[3]/CTS1/PIPESTAT1 (io), 74 P2[1]/PWM1[2]/RXD1/PIPESTAT0 (io), 75 P2[0]/PWM1[1]/TXD1/TRACECLK (io), 76 P0[9]/I2STX_SDA/MOSI1/MAT2[3] (io), 77 P0[8]/I2STX_WS/MISO1/MAT2[2] (io), 78 P0[7]/I2STX_CLK/SCK1/MAT2[1] (io), 79 P0[6]/I2SRX_SDA/SSEL1/MAT2[0] (io), 80 P0[5]/I2SRX_WS/TD2/CAP2[1] (io), 81 P0[4]/I2SRX_CLK/RD2/CAP2[0] (io), 82 P4[28]/MAT2[0]/TXD3 (io), 85 P4[29]/MAT2[1]/RXD3 (io), 86 P1[17]/ENET_MDIO (io), 87 P1[16]/ENET_MDC (io), 88 P1[15]/ENET_REF_CLK (io), 89 P1[14]/ENET_RX_ER (io), 90 P1[10]/ENET_RXD1 (io), 91 P1[9]/ENET_RXD0 (io), 92 P1[8]/ENET_CRS (io), 93 P1[4]/ENET_TX_EN (io), 94 P1[1]/ENET_TXD1 (io), 95 P1[0]/ENET_TXD0 (io), 98 P0[2]/TXD0 (io), 99 P0[3]/RXD0 (io), 100 RTCK (io) "RTCK - JTAG interface control signal. Note: LOW on this pin while R\E\S\E\T\ is LOW enables ETM pins (P2[9:0]) to operate as trace port after reset."
part B pins: 10 VDDA (power) "analog 3.3 V pad supply voltage: This should be nominally the same voltage as VDD(3V3) but should be isolated to minimize noise and error. This voltage is used to power the ADC and DAC.", 11 VSSA (power) "analog ground: 0 V reference. This should nominally be the same voltage as VSS, but should be isolated to minimize noise and error.", 12 VREF "ADC reference: This should be nominally the same voltage as VDD(3V3) but should be isolated to minimize noise and error. Level on this pin is used as a reference for ADC and DAC.", 13 VDD(DCDC)(3V3) (power) "3.3 V DC-to-DC converter supply voltage: This is the supply voltage for the on-chip DC-to-DC converter only.", 15 VSS (power) "ground: 0 V reference.", 19 VBAT (power) "RTC power supply: 3.3 V on this pin supplies the power to the RTC peripheral.", 28 VDD(3V3) (power) "3.3 V supply voltage: This is the power supply voltage for the I/O ports.", 31 VSS (power) "ground: 0 V reference.", 41 VSS (power) "ground: 0 V reference.", 42 VDD(DCDC)(3V3) (power) "3.3 V DC-to-DC converter supply voltage: This is the supply voltage for the on-chip DC-to-DC converter only.", 54 VDD(3V3) (power) "3.3 V supply voltage: This is the power supply voltage for the I/O ports.", 55 VSS (power) "ground: 0 V reference.", 71 VDD(3V3) (power) "3.3 V supply voltage: This is the power supply voltage for the I/O ports.", 72 VSS (power) "ground: 0 V reference.", 83 VSS (power) "ground: 0 V reference.", 84 VDD(DCDC)(3V3) (power) "3.3 V DC-to-DC converter supply voltage: This is the supply voltage for the on-chip DC-to-DC converter only.", 96 VDD(3V3) (power) "3.3 V supply voltage: This is the power supply voltage for the I/O ports.", 97 VSS (power) "ground: 0 V reference."

## LPC2367FBD100,551
designator U?
16/32-bit ARM7 Microcontroller, 70 I/O, 512 kB Flash, 58 kB SRAM, -40 to 85 degC, 100-Pin LQFP, Tray; Manufacturer: NXP Semiconductors; PartNumber: LPC2367FBD100,551; # of timers: 4; ADC (bits): 10; ADC Channels: 6; Ethernet: 1; Flash (KB): 512; fmax [max] (MHz): 72; I/O Pins: 70; I2C: 3; PLL: TRUE; RAM (KB): 58; SSP: 2; Timer (bits): 32; DatasheetVersion: Rev. 7.1; PackageVersion: Feb-03; PackageReference: SOT407-1; PackageDescription: 100-Pin Plastic Low Profile Quad Flat Package, Body 14 x 14 mm, Pitch 0.5 mm; Supplier 1: Digi-Key; Supplier Part Number 1: 568-4410-ND; Supplier 2: Farnell; Supplier Part Number 2: 2314795; Supplier 3: Newark; Supplier Part Number 3: 95W3357; Supplier 4: Mouser; Supplier Part Number 4: 771-LPC2367FBD100-S; Core: ARM7; Packing: Tray; PWM: 6; SPI: 1; UART: 4; Mounting Technology: Surface Mount; Code_JEDEC: MS-026; ComponentLink1Description: Manufacturer URL; ComponentLink1URL: http://www.nxp.com/; ComponentLink2Description: Datasheet; ComponentLink2URL: http://www.nxp.com/documents/data_sheet/LPC2364_65_66_67_68.pdf; ComponentLink3Description: Package Specification; ComponentLink3URL: http://www.nxp.com/documents/outline_drawing/sot407-1_po.pdf
footprint NXP-SOT407-1_V (QFP, 100-Leads, Body 14x14mm, Pitch 0.5mm)
part A pins: 1 TDO (out) "TDO — Test Data out for JTAG interface.", 2 TDI (in) "TDI — Test Data in for JTAG interface.", 3 TMS (in) "TMS — Test Mode Select for JTAG interface.", 4 ~{TRST} (in) "T\R\S\T\ - Test Reset for JTAG interface.", 5 TCK (in) "TCK - Test Clock for JTAG interface. This clock must be slower than 1/6 of the CPU clock (CCLK) for the JTAG interface to operate", 6 P0[26]/AD0[3]/AOUT/RXD3 (io), 7 P0[25]/AD0[2]/I2SRX_SDA/TXD3 (io), 8 P0[24]/AD0[1]/I2SRX_WS/CAP3[1] (io), 9 P0[23]/AD0[0]/I2SRX_CLK/CAP3[0] (io), 14 ~{RSTOUT} (out) "R\S\T\O\U\T\ - This is a 3.3 V pin. LOW on this pin indicates LPC2364/65/66/67/68 being in Reset state.", 16 RTCX1 "Input to the RTC oscillator circuit.", 17 ~{RESET} (in) "External reset input: A LOW on this pin resets the device, causing I/O ports and peripherals to take on their default states, and processor execution to begin at address 0. TTL with hysteresis, 5 V tolerant.", 18 RTCX2 "Output from the RTC oscillator circuit.", 20 P1[31]/SCK1/AD0[5] (io), 21 P1[30]/AD0[4] (io), 22 XTAL1 (in) "Input to the oscillator circuit and internal clock generator circuits.", 23 XTAL2 "Output from the oscillator amplifier.", 24 P0[28]/SCL0 (io), 25 P0[27]/SDA0 (io), 26 P3[26]/MAT0[1]/PWM1[3] (io), 27 P3[25]/MAT0[0]/PWM1[2] (io), 29 P0[29] (io) "P0[29] — General purpose digital input/output pin.", 30 P0[30] (io) "P0[30] - General purpose digital input/output pin.", 32 P1[18]/PWM1[1]/CAP1[0] (io), 33 P1[19]/CAP1[1] (io), 34 P1[20]/PWM1[2]/SCK0 (io), 35 P1[21]/PWM1[3]/SSEL0 (io), 36 P1[22]/MAT1[0] (io), 37 P1[23]/PWM1[4]/MISO0 (io), 38 P1[24]/PWM1[5]/MOSI0 (io), 39 P1[25]/MAT1[1] (io), 40 P1[26]/PWM1[6]/CAP0[0] (io), 43 P1[27]/CAP0[1] (io), 44 P1[28]/PCAP1[0]/MAT0[0] (io), 45 P1[29]/PCAP1[1]/MAT0[1] (io), 46 P0[0]/TXD3/SDA1 (io), 47 P0[1]/RXD3/SCL1 (io), 48 P0[10]/TXD2/SDA2/MAT3[0] (io), 49 P0[11]/RXD2/SCL2/MAT3[1] (io), 50 P2[13]/~{EINT3}/MCIDAT3/I2STX_SDA (io), 51 P2[12]/~{EINT2}/MCIDAT2/I2STX_WS (io), 52 P2[11]/~{EINT1}/MCIDAT1/I2STX_CLK (io), 53 P2[10]/~{EINT0} (io), 56 P0[22]/RTS1/MCIDAT0 (io), 57 P0[21]/RI1/MCIPWR (io), 58 P0[20]/DTR1/MCICMD/SCL1 (io), 59 P0[19]/DSR1/MCICLK/SDA1 (io), 60 P0[18]/DCD1/MOSI0/MOSI (io), 61 P0[17]/CTS1/MISO0/MISO (io), 62 P0[15]/TXD1/SCK0/SCK (io), 63 P0[16]/RXD1/SSEL0/SSEL (io), 64 P2[9]/RXD2/EXTIN0 (io), 65 P2[8]/TXD2/TRACEPKT3 (io), 66 P2[7]/RTS1/TRACEPKT2 (io), 67 P2[6]/PCAP1[0]/RI1/TRACEPKT1 (io), 68 P2[5]/PWM1[6]/DTR1/TRACEPKT0 (io), 69 P2[4]/PWM1[5]/DSR1/TRACESYNC (io), 70 P2[3]/PWM1[4]/DCD1/PIPESTAT2 (io), 73 P2[2]/PWM1[3]/CTS1/PIPESTAT1 (io), 74 P2[1]/PWM1[2]/RXD1/PIPESTAT0 (io), 75 P2[0]/PWM1[1]/TXD1/TRACECLK (io), 76 P0[9]/I2STX_SDA/MOSI1/MAT2[3] (io), 77 P0[8]/I2STX_WS/MISO1/MAT2[2] (io), 78 P0[7]/I2STX_CLK/SCK1/MAT2[1] (io), 79 P0[6]/I2SRX_SDA/SSEL1/MAT2[0] (io), 80 P0[5]/I2SRX_WS/CAP2[1] (io), 81 P0[4]/I2SRX_CLK/CAP2[0] (io), 82 P4[28]/MAT2[0]/TXD3 (io), 85 P4[29]/MAT2[1]/RXD3 (io), 86 P1[17]/ENET_MDIO (io), 87 P1[16]/ENET_MDC (io), 88 P1[15]/ENET_REF_CLK (io), 89 P1[14]/ENET_RX_ER (io), 90 P1[10]/ENET_RXD1 (io), 91 P1[9]/ENET_RXD0 (io), 92 P1[8]/ENET_CRS (io), 93 P1[4]/ENET_TX_EN (io), 94 P1[1]/ENET_TXD1 (io), 95 P1[0]/ENET_TXD0 (io), 98 P0[2]/TXD0 (io), 99 P0[3]/RXD0 (io), 100 RTCK (io) "RTCK — JTAG interface control signal."
part B pins: 10 VDDA (power) "analog 3.3 V pad supply voltage: This should be nominally.voltage as VDD(3V3) but should be isolated to minimize noise. voltage is used to power the ADC and DAC.", 11 VSSA (power) "analog ground: 0 V reference. This should nominally be the same voltage as VSS, but should be isolated to minimize noise and error.", 12 VREF "ADC reference: This should be nominally the same voltage as VDD(3V3) but should be isolated to minimize noise and error. Level on this pin is used as a reference for ADC and DAC.", 13 VDD(DCDC)(3V3) (power) "3.3 V DC-to-DC converter supply voltage: This is the supply voltage for the on-chip DC-to-DC converter only.", 15 VSS (power) "ground: 0 V reference.", 19 VBAT (power) "RTC pin power supply: 3.3 V on this pin supplies the power to the RTC peripheral.", 28 VDD(3V3) (power) "3.3 V supply voltage: This is the power supply voltage for the I/O ports.", 31 VSS (power) "ground: 0 V reference.", 41 VSS (power) "ground: 0 V reference.", 42 VDD(DCDC)(3V3) (power) "3.3 V DC-to-DC converter supply voltage: This is the supply voltage for the on-chip DC-to-DC converter only.", 54 VDD(3V3) (power) "3.3 V supply voltage: This is the power supply voltage for the I/O ports.", 55 VSS (power) "ground: 0 V reference.", 71 VDD(3V3) (power) "3.3 V supply voltage: This is the power supply voltage for the I/O ports.", 72 VSS (power) "ground: 0 V reference.", 83 VSS (power) "ground: 0 V reference.", 84 VDD(DCDC)(3V3) (power) "3.3 V DC-to-DC converter supply voltage: This is the supply voltage for the on-chip DC-to-DC converter only.", 96 VDD(3V3) (power) "3.3 V supply voltage: This is the power supply voltage for the I/O ports.", 97 VSS (power) "ground: 0 V reference."